# EAGLE library part OLIMEX_CONNECTORS_MINI_USB9 (library A13-OLinuXino_WIFI_Rev_G)
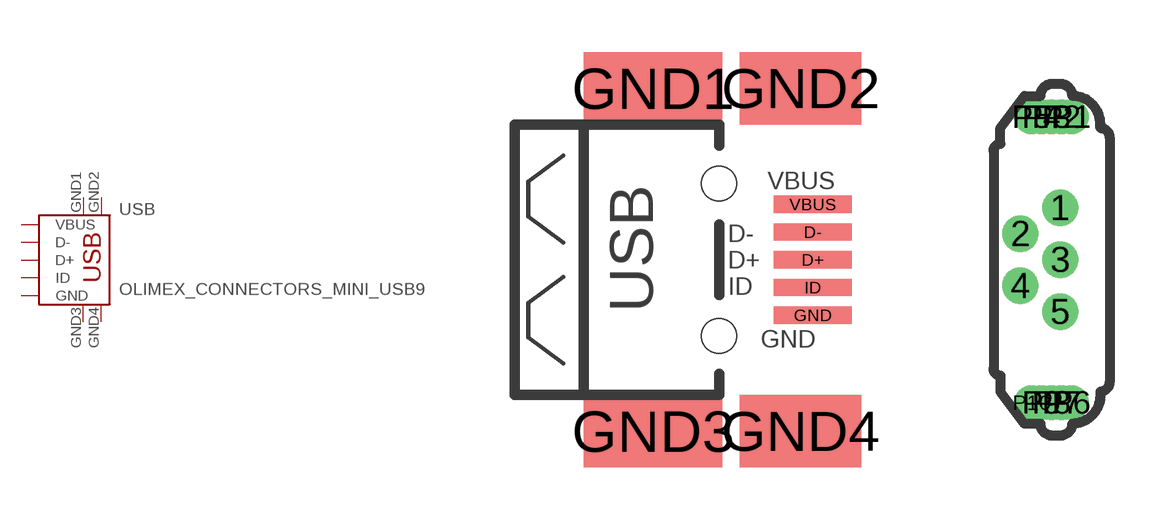
[diagram p3: symbol with the pads of OLIMEX_CONNECTORS_USB_MINI_9PIN; footprints OLIMEX_CONNECTORS_USB_MINI_9PIN, OLIMEX_CONNECTORS_USB3131]

Designator prefix USB

## OLIMEX_CONNECTORS_MINI_USB9  [OLIMEX_CONNECTORS_USB_MINI_9PIN]
D+  D+  in
D-  D-  in
GND  GND  pwr
GND1  GND1  in
GND2  GND2  in
GND3  GND3  in
GND4  GND4  in
ID  ID  in
VBUS  VBUS  pwr

## OLIMEX_CONNECTORS_MINI_USB93131  [OLIMEX_CONNECTORS_USB3131]
1  VBUS  pwr
2  D-  in
3  D+  in
4  ID  in
5  GND  pwr
P1  GND1  in
P5  GND2  in
P6  GND3  in
P10  GND4  in

## OLIMEX_CONNECTORS_MINI_USB9MISB-SW-5AB-LF  [OLIMEX_CONNECTORS_MISB-SW-5AB-LF]
Pads as for OLIMEX_CONNECTORS_USB_MINI_9PIN

## Footprint OLIMEX_CONNECTORS_USB_MINI_9PIN (pad centres in mm)
smd 2.25 x 0.5: D+ 2.706,0; D- 2.706,0.8; GND 2.706,-1.6; ID 2.706,-0.8; VBUS 2.706,1.6
smd 4 x 2.1: GND1 -1.9,4.95; GND3 -1.9,-4.95
smd 3.5 x 2.1: GND2 2.35,4.95; GND4 2.35,-4.95
hole 1 at 0,2.2
hole 1 at 0,-2.2

## Footprint OLIMEX_CONNECTORS_USB3131 (pad centres in mm)
drill 0.4: 1 0,1.3; 2 -1,0.65; 3 0,0; 4 -1,-0.65; 5 0,-1.3
drill 0.35: P1 0.28,3.575; P2 0.03,3.575; P3 -0.22,3.575; P4 -0.47,3.575; P5 -0.72,3.575; P6 0.28,-3.575; P7 0.03,-3.575; P8 -0.22,-3.575; P9 -0.47,-3.575; P10 -0.72,-3.575

## Footprint OLIMEX_CONNECTORS_MISB-SW-5AB-LF (pad centres in mm)
MISB-SW-5AB-LF e kato SMD MICRO USB 5S AB TYPE SMT s order 1-MD05SMXXX-02
drill 1.2: 1 1.47,3.97; 2 1.47,-0.03; 3 1.47,-4.03
smd 1.4 x 0.4: D+ 4.1,0; D- 4.1,0.65; GND 4.1,-1.3; ID 4.1,-0.65; VBUS 4.1,1.3
smd 2 x 2: GND1 1.45,4; GND2 1.45,-4
smd 2 x 6.4: GND3 1.45,-0.05
smd 2 x 10 bottom: GND4 1.45,0
hole 0.6 at 3.5,-2
hole 0.6 at 3.5,2